# Altium integrated library TI Interface Display Driver.IntLib: 102 symbols (part 3 of 3)
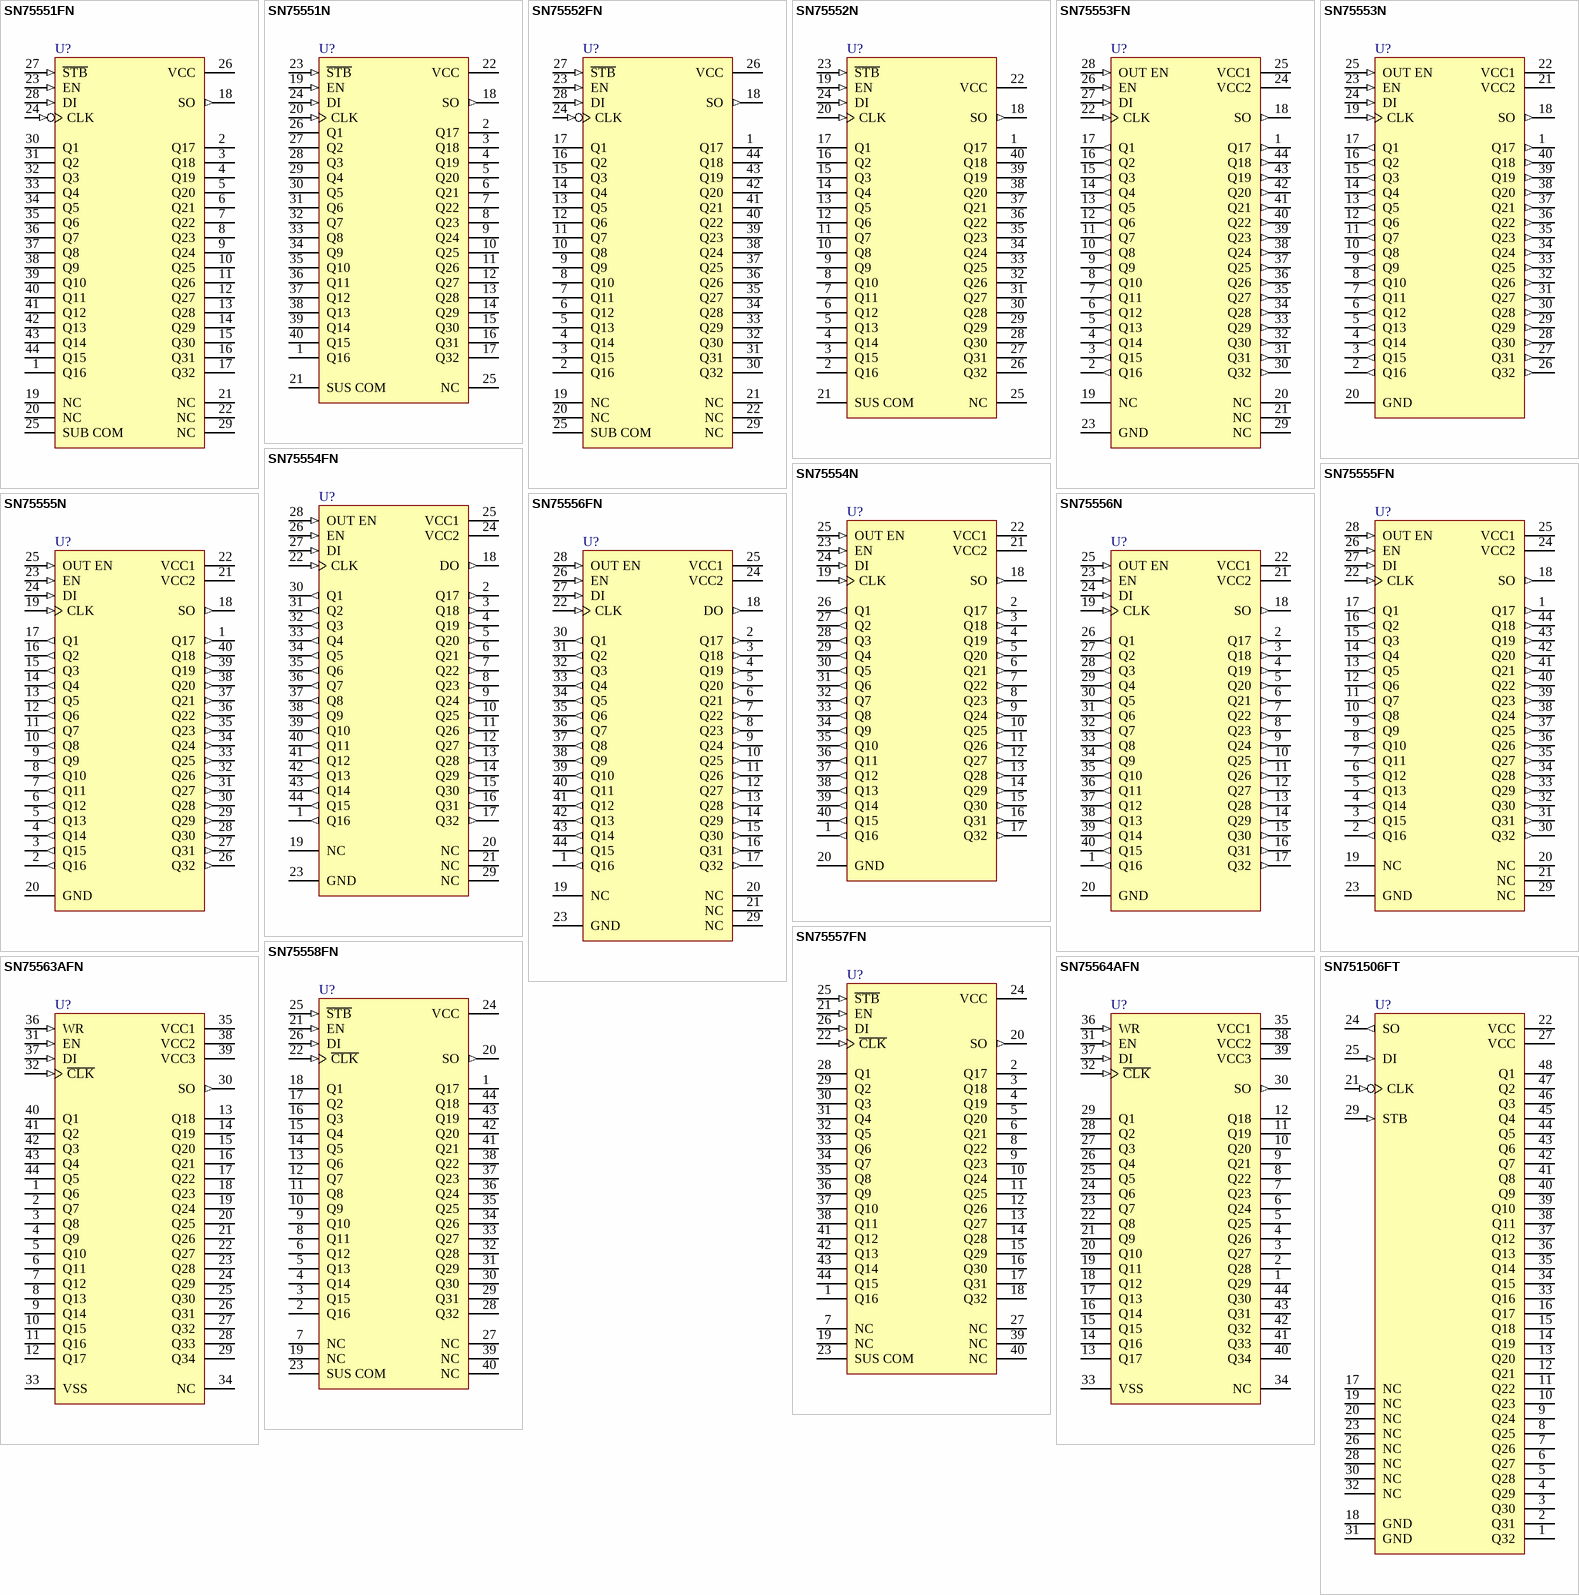
[diagram p6: symbols SN75551FN to SN751506FT]

## SN75563AFN
designator U?
Electroluminescent Row Driver; Note: The 'POSITIVE WRITE' pin configures the 'Q' Outputs as OPEN EMITTER, or OPEN COLLECTOR.  Ensure 'Q' pins are the appropriate electrical type.; Published: 15-May-2002; LatestRevisionDate: 13-Apr-2006; LatestRevisionNote: IPC-7351 Footprint Added.; DatasheetVersion: Dec-1989; PackageVersion: Oct-1994; PackageReference: FN044; Publisher: Altium Limited; PackageDescription: 44-Pin Leaded Chip Carrier 1.27 mm Pitch; Code_IPC: PLCC-44; ComponentLink1Description: Manufacturer Link; ComponentLink1URL: http://www.ti.com/
footprint FN044_N (Leaded Chip Carrier, 44-Leads, Body 16.6x16.6mm, Pitch 1.27mm, IPC Medium Density)
footprint FN044_L (Leaded Chip Carrier, 44-Leads, Body 16.6x16.6mm, Pitch 1.27mm, IPC High Density)
footprint FN044_M (Leaded Chip Carrier, 44-Leads, Body 16.6x16.6mm, Pitch 1.27mm, IPC Low Density)
3D model SN75563A-FN044 (44-Pin Leaded Chip Carrier 1.27 mm Pitch)
pins: 1 Q6 (hiz), 2 Q7 (hiz), 3 Q8 (hiz), 4 Q9 (hiz), 5 Q10 (hiz), 6 Q11 (hiz), 7 Q12 (hiz), 8 Q13 (hiz), 9 Q14 (hiz), 10 Q15 (hiz), 11 Q16 (hiz), 12 Q17 (hiz), 13 Q18 (hiz), 14 Q19 (hiz), 15 Q20 (hiz), 16 Q21 (hiz), 17 Q22 (hiz), 18 Q23 (hiz), 19 Q24 (hiz), 20 Q25 (hiz), 21 Q26 (hiz), 22 Q27 (hiz), 23 Q28 (hiz), 24 Q29 (hiz), 25 Q30 (hiz), 26 Q31 (hiz), 27 Q32 (hiz), 28 Q33 (hiz), 29 Q34 (hiz), 30 SO (out), 31 EN (in), 32 ~{CLK} (in), 33 VSS (power), 34 NC, 35 VCC1 (power), 36 WR (in), 37 DI (in), 38 VCC2 (power), 39 VCC3 (power), 40 Q1 (hiz), 41 Q2 (hiz), 42 Q3 (hiz), 43 Q4 (hiz), 44 Q5 (hiz)

## SN75564AFN
designator U?
Electroluminescent Row Driver; Note: The 'POSITIVE WRITE' pin configures the 'Q' Outputs as OPEN EMITTER, or OPEN COLLECTOR.  Ensure 'Q' pins are the appropriate electrical type.; Published: 15-May-2002; LatestRevisionDate: 13-Apr-2006; LatestRevisionNote: IPC-7351 Footprint Added.; DatasheetVersion: Dec-1989; PackageVersion: Oct-1994; PackageReference: FN044; Publisher: Altium Limited; PackageDescription: 44-Pin Leaded Chip Carrier 1.27 mm Pitch; Code_IPC: PLCC-44; ComponentLink1Description: Manufacturer Link; ComponentLink1URL: http://www.ti.com/
footprint FN044_N (Leaded Chip Carrier, 44-Leads, Body 16.6x16.6mm, Pitch 1.27mm, IPC Medium Density)
footprint FN044_L (Leaded Chip Carrier, 44-Leads, Body 16.6x16.6mm, Pitch 1.27mm, IPC High Density)
footprint FN044_M (Leaded Chip Carrier, 44-Leads, Body 16.6x16.6mm, Pitch 1.27mm, IPC Low Density)
3D model SN75564A-FN044 (44-Pin Leaded Chip Carrier 1.27 mm Pitch)
pins: 1 Q29 (hiz), 2 Q28 (hiz), 3 Q27 (hiz), 4 Q26 (hiz), 5 Q25 (hiz), 6 Q24 (hiz), 7 Q23 (hiz), 8 Q22 (hiz), 9 Q21 (hiz), 10 Q20 (hiz), 11 Q19 (hiz), 12 Q18 (hiz), 13 Q17 (hiz), 14 Q16 (hiz), 15 Q15 (hiz), 16 Q14 (hiz), 17 Q13 (hiz), 18 Q12 (hiz), 19 Q11 (hiz), 20 Q10 (hiz), 21 Q9 (hiz), 22 Q8 (hiz), 23 Q7 (hiz), 24 Q6 (hiz), 25 Q5 (hiz), 26 Q4 (hiz), 27 Q3 (hiz), 28 Q2 (hiz), 29 Q1 (hiz), 30 SO (out), 31 EN (in), 32 ~{CLK} (in), 33 VSS (power), 34 NC, 35 VCC1 (power), 36 WR (in), 37 DI (in), 38 VCC2 (power), 39 VCC3 (power), 40 Q34 (hiz), 41 Q33 (hiz), 42 Q32 (hiz), 43 Q31 (hiz), 44 Q30 (hiz)

## SN751506FT
designator U?
DC Plasma Display Driver; ComponentAvailability: Obsolete; Published: 15-May-2002; LatestRevisionDate: 13-Apr-2006; LatestRevisionNote: IPC-7351 Footprint Added.; DatasheetVersion: Jul-1989; PackageVersion: Mar-1998; PackageReference: FT048; Publisher: Altium Limited; PackageDescription: 48-Pin Small Outline Package 0.8 mm Pitch; ComponentLink1Description: Manufacturer Link; ComponentLink1URL: http://www.ti.com/; ComponentLink2Description: Datasheet; ComponentLink2URL: http://www-s.ti.com/sc/ds/sn751506.pdf
footprint FT048_N (SOP, 48-Leads, Body 20x14mm, Pitch 0.8mm, IPC Medium Density)
footprint FT048_L (SOP, 48-Leads, Body 20x14mm, Pitch 0.8mm, IPC High Density)
footprint FT048_M (SOP, 48-Leads, Body 20x14mm, Pitch 0.8mm, IPC Low Density)
3D model FT048 (48-Pin Small Outline Package 0.8 mm Pitch)
pins: 1 Q32 (oc), 2 Q31 (oc), 3 Q30 (oc), 4 Q29 (oc), 5 Q28 (oc), 6 Q27 (oc), 7 Q26 (oc), 8 Q25 (oc), 9 Q24 (oc), 10 Q23 (oc), 11 Q22 (oc), 12 Q21 (oc), 13 Q20 (oc), 14 Q19 (oc), 15 Q18 (oc), 16 Q17 (oc), 17 NC, 18 GND (power), 19 NC, 20 NC, 21 CLK (in), 22 VCC (power), 23 NC, 24 SO (out), 25 DI (in), 26 NC, 27 VCC (power), 28 NC, 29 STB (in), 30 NC, 31 GND (power), 32 NC, 33 Q16 (oc), 34 Q15 (oc), 35 Q14 (oc), 36 Q13 (oc), 37 Q12 (oc), 38 Q11 (oc), 39 Q10 (oc), 40 Q9 (oc), 41 Q8 (oc), 42 Q7 (oc), 43 Q6 (oc), 44 Q5 (oc), 45 Q4 (oc), 46 Q3 (oc), 47 Q2 (oc), 48 Q1 (oc)

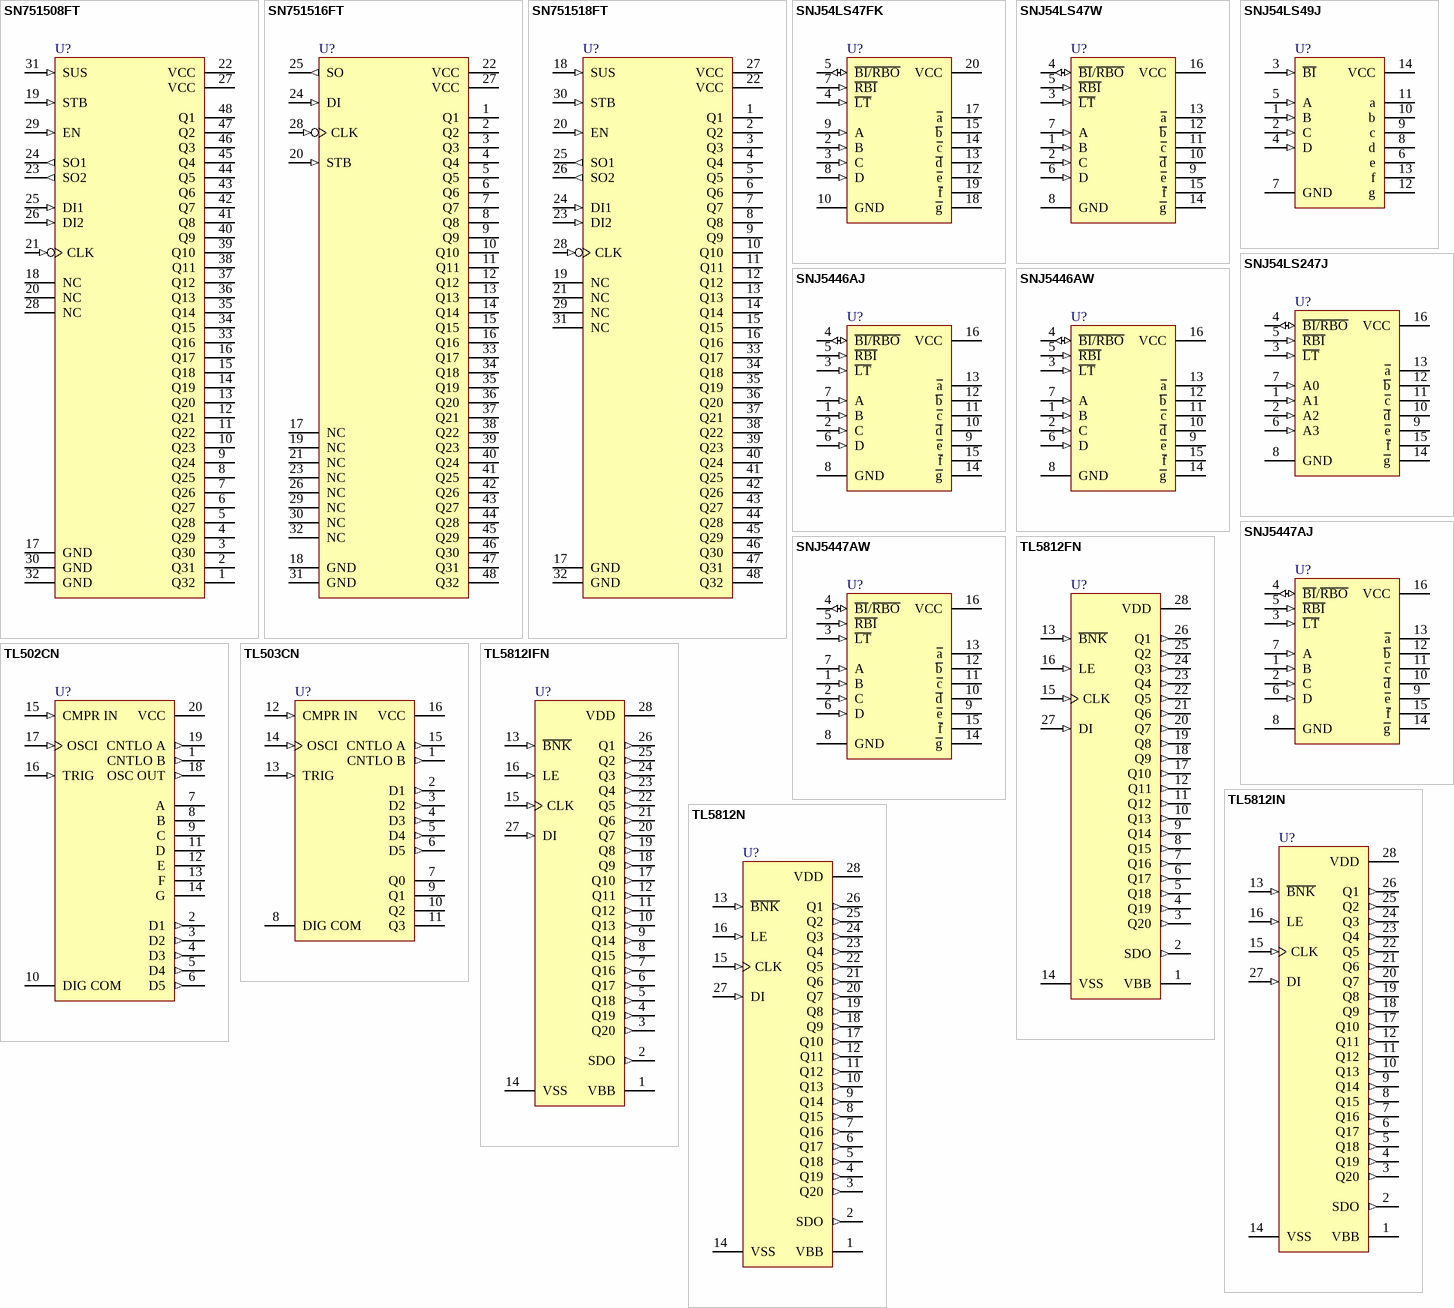
[diagram p4: symbols SN751508FT to TL5812N]

## SN751508FT
designator U?
DC Plasma Display Driver; ComponentAvailability: Obsolete; Published: 15-May-2002; LatestRevisionDate: 13-Apr-2006; LatestRevisionNote: IPC-7351 Footprint Added.; DatasheetVersion: Nov-1989; PackageVersion: Mar-1998; PackageReference: FT048; Publisher: Altium Limited; PackageDescription: 48-Pin Small Outline Package 0.8 mm Pitch; ComponentLink1Description: Manufacturer Link; ComponentLink1URL: http://www.ti.com/; ComponentLink2Description: Datasheet; ComponentLink2URL: http://www-s.ti.com/sc/ds/sn751518.pdf
footprint FT048_N (SOP, 48-Leads, Body 20x14mm, Pitch 0.8mm, IPC Medium Density)
footprint FT048_L (SOP, 48-Leads, Body 20x14mm, Pitch 0.8mm, IPC High Density)
footprint FT048_M (SOP, 48-Leads, Body 20x14mm, Pitch 0.8mm, IPC Low Density)
3D model FT048 (48-Pin Small Outline Package 0.8 mm Pitch)
pins: 1 Q32 (oe), 2 Q31 (oe), 3 Q30 (oe), 4 Q29 (oe), 5 Q28 (oe), 6 Q27 (oe), 7 Q26 (oe), 8 Q25 (oe), 9 Q24 (oe), 10 Q23 (oe), 11 Q22 (oe), 12 Q21 (oe), 13 Q20 (oe), 14 Q19 (oe), 15 Q18 (oe), 16 Q17 (oe), 17 GND (power), 18 NC, 19 STB (in), 20 NC, 21 CLK (in), 22 VCC (power), 23 SO2 (out), 24 SO1 (out), 25 DI1 (in), 26 DI2 (in), 27 VCC (power), 28 NC, 29 EN (in), 30 GND (power), 31 SUS (in), 32 GND (power), 33 Q16 (oe), 34 Q15 (oe), 35 Q14 (oe), 36 Q13 (oe), 37 Q12 (oe), 38 Q11 (oe), 39 Q10 (oe), 40 Q9 (oe), 41 Q8 (oe), 42 Q7 (oe), 43 Q6 (oe), 44 Q5 (oe), 45 Q4 (oe), 46 Q3 (oe), 47 Q2 (oe), 48 Q1 (oe)

## SN751516FT
designator U?
DC Plasma Display Driver; ComponentAvailability: Obsolete; Published: 15-May-2002; LatestRevisionDate: 13-Apr-2006; LatestRevisionNote: IPC-7351 Footprint Added.; DatasheetVersion: Jul-1989; PackageVersion: Mar-1998; PackageReference: FT048; Publisher: Altium Limited; PackageDescription: 48-Pin Small Outline Package 0.8 mm Pitch; ComponentLink1Description: Manufacturer Link; ComponentLink1URL: http://www.ti.com/; ComponentLink2Description: Datasheet; ComponentLink2URL: http://www-s.ti.com/sc/ds/sn751506.pdf
footprint FT048_N (SOP, 48-Leads, Body 20x14mm, Pitch 0.8mm, IPC Medium Density)
footprint FT048_L (SOP, 48-Leads, Body 20x14mm, Pitch 0.8mm, IPC High Density)
footprint FT048_M (SOP, 48-Leads, Body 20x14mm, Pitch 0.8mm, IPC Low Density)
3D model FT048 (48-Pin Small Outline Package 0.8 mm Pitch)
pins: 1 Q1 (oc), 2 Q2 (oc), 3 Q3 (oc), 4 Q4 (oc), 5 Q5 (oc), 6 Q6 (oc), 7 Q7 (oc), 8 Q8 (oc), 9 Q9 (oc), 10 Q10 (oc), 11 Q11 (oc), 12 Q12 (oc), 13 Q13 (oc), 14 Q14 (oc), 15 Q15 (oc), 16 Q16 (oc), 17 NC, 18 GND (power), 19 NC, 20 STB (in), 21 NC, 22 VCC (power), 23 NC, 24 DI (in), 25 SO (out), 26 NC, 27 VCC (power), 28 CLK (in), 29 NC, 30 NC, 31 GND (power), 32 NC, 33 Q17 (oc), 34 Q18 (oc), 35 Q19 (oc), 36 Q20 (oc), 37 Q21 (oc), 38 Q22 (oc), 39 Q23 (oc), 40 Q24 (oc), 41 Q25 (oc), 42 Q26 (oc), 43 Q27 (oc), 44 Q28 (oc), 45 Q29 (oc), 46 Q30 (oc), 47 Q31 (oc), 48 Q32 (oc)

## SN751518FT
designator U?
DC Plasma Display Driver; ComponentAvailability: Obsolete; Published: 15-May-2002; LatestRevisionDate: 13-Apr-2006; LatestRevisionNote: IPC-7351 Footprint Added.; DatasheetVersion: Nov-1989; PackageVersion: Mar-1998; PackageReference: FT048; Publisher: Altium Limited; PackageDescription: 48-Pin Small Outline Package 0.8 mm Pitch; ComponentLink1Description: Manufacturer Link; ComponentLink1URL: http://www.ti.com/; ComponentLink2Description: Datasheet; ComponentLink2URL: http://www-s.ti.com/sc/ds/sn751518.pdf
footprint FT048_N (SOP, 48-Leads, Body 20x14mm, Pitch 0.8mm, IPC Medium Density)
footprint FT048_L (SOP, 48-Leads, Body 20x14mm, Pitch 0.8mm, IPC High Density)
footprint FT048_M (SOP, 48-Leads, Body 20x14mm, Pitch 0.8mm, IPC Low Density)
3D model FT048 (48-Pin Small Outline Package 0.8 mm Pitch)
pins: 1 Q1 (oe), 2 Q2 (oe), 3 Q3 (oe), 4 Q4 (oe), 5 Q5 (oe), 6 Q6 (oe), 7 Q7 (oe), 8 Q8 (oe), 9 Q9 (oe), 10 Q10 (oe), 11 Q11 (oe), 12 Q12 (oe), 13 Q13 (oe), 14 Q14 (oe), 15 Q15 (oe), 16 Q16 (oe), 17 GND (power), 18 SUS (in), 19 NC, 20 EN (in), 21 NC, 22 VCC (power), 23 DI2 (in), 24 DI1 (in), 25 SO1 (out), 26 SO2 (out), 27 VCC (power), 28 CLK (in), 29 NC, 30 STB (in), 31 NC, 32 GND (power), 33 Q17 (oe), 34 Q18 (oe), 35 Q19 (oe), 36 Q20 (oe), 37 Q21 (oe), 38 Q22 (oe), 39 Q23 (oe), 40 Q24 (oe), 41 Q25 (oe), 42 Q26 (oe), 43 Q27 (oe), 44 Q28 (oe), 45 Q29 (oe), 46 Q30 (oe), 47 Q31 (oe), 48 Q32 (oe)

## SNJ54LS47FK
designator U?
BCD-to-Seven-Segment Decoder/Driver; Note: Pins 1, 6, 11 and 16 - No Connection and not drawn; Published: 8-Jun-2000; LatestRevisionDate: 29-May-2009; LatestRevisionNote: IPC-7351 Footprint Added.; DatasheetVersion: Mar-1988; PackageVersion: 1998; PackageReference: FK020; Publisher: Altium Limited; PackageDescription: 20-Pin Leadless Chip Carrier 1.27 mm Pitch; Code_JEDEC: MS-004-CB; ComponentLink1Description: Manufacturer Link; ComponentLink1URL: http://www.ti.com/
footprint FK020_N (Leadless Chip Carrier, 20-Leads, Body 8.9x8.9mm, Pitch 1.27mm, IPC Medium Density)
footprint FK020_L (Leadless Chip Carrier, 20-Leads, Body 8.9x8.9mm, Pitch 1.27mm, IPC High Density)
footprint FK020_M (Leadless Chip Carrier, 20-Leads, Body 8.9x8.9mm, Pitch 1.27mm, IPC Low Density)
simulation model SN74LS47 (SIMCODE)
signal-integrity model SNJ54LS47FK
pins: 2 B (in), 3 C (in), 4 ~{LT} (in), 5 ~{BI/RBO} (io), 7 ~{RBI} (in), 8 D (in), 9 A (in), 10 GND (power), 12 ~{e} (oc), 13 ~{d} (oc), 14 ~{c} (oc), 15 ~{b} (oc), 17 ~{a} (oc), 18 ~{g} (oc), 19 ~{f} (oc), 20 VCC (power)

## SNJ54LS47W
designator U?
BCD-to-Seven-Segment Decoder/Driver; Published: 8-Jun-2000; LatestRevisionDate: 04-Mar-2005; LatestRevisionNote: Stylized 3D Model Added.; DatasheetVersion: Mar-1988; PackageVersion: Jan-1995; PackageReference: W016; Publisher: Altium Limited; PackageDescription: DFP; 16 Leads; Body 10.9 x 7.2 mm (LxW max); Pitch 1.27 mm; Code_JEDEC: MO-092-AC; ComponentLink1Description: Manufacturer Link; ComponentLink1URL: http://www.ti.com/
footprint W016 (DFP; 16 Leads; Body 10.9 x 7.2 mm (LxW max); Pitch 1.27 mm)
3D model W016 (DFP; 16 Leads; Body 10.9 x 7.2 mm (LxW max); Pitch 1.27 mm)
simulation model SN74LS47 (SIMCODE)
signal-integrity model SNJ54LS47W
pins: 1 B (in), 2 C (in), 3 ~{LT} (in), 4 ~{BI}/~{RBO} (io), 5 ~{RBI} (in), 6 D (in), 7 A (in), 8 GND (power), 9 ~{e} (oc), 10 ~{d} (oc), 11 ~{c} (oc), 12 ~{b} (oc), 13 ~{a} (oc), 14 ~{g} (oc), 15 ~{f} (oc), 16 VCC (power)

## SNJ54LS49J
designator U?
BCD-to-Seven-Segment Decoder/Driver; Published: 8-Jun-2000; LatestRevisionDate: 29-May-2009; LatestRevisionNote: Component Body Added.; DatasheetVersion: Mar-1988; PackageVersion: Jun-1999; PackageReference: J014; Publisher: Altium Limited; PackageDescription: DIP, Ceramic, 14-Pin, Row Spacing 7.62 mm, Pitch 2.54 mm; ComponentLink1Description: Manufacturer Link; ComponentLink1URL: http://www.ti.com/; ComponentLink2Description: Datasheet; ComponentLink2URL: http://www-s.ti.com/sc/ds/sn54ls49.pdf; ComponentLink3Description: URL Link1; ComponentLink3URL: http://focus.ti.com/docs/prod/folders/print/sn54ls49.html
footprint J014 (DIP, 14-Leads, Row Spacing 7.62mm, Pitch 2.54mm, Body 19.56x6.92mm)
3D model J014 (DIP, Ceramic, 14-Pin, Row Spacing 7.62 mm, Pitch 2.54 mm)
signal-integrity model SNJ54LS49J
pins: 1 B (in), 2 C (in), 3 ~{BI} (in), 4 D (in), 5 A (in), 6 e (oc), 7 GND (power), 8 d (oc), 9 c (oc), 10 b (oc), 11 a (oc), 12 g (oc), 13 f (oc), 14 VCC (power)

## SNJ54LS247J
designator U?
BCD-to-Seven-Segment Decoder/Driver; Published: 8-Jun-2000; LatestRevisionDate: 29-May-2009; LatestRevisionNote: Component Body Added.; DatasheetVersion: Mar-1988; PackageVersion: Jun-1999; PackageReference: J016D; Publisher: Altium Limited; PackageDescription: DIP, Ceramic, 16-Pin, Row Spacing 7.62 mm, Pitch 2.54 mm; ComponentLink1Description: Manufacturer Link; ComponentLink1URL: http://www.ti.com/
footprint J016D (DIP, 16-Leads, Row Spacing 7.62mm, Pitch 2.54mm, Body 19.56x6.92mm)
3D model J016 (DIP, Ceramic, 16-Pin, Row Spacing 7.62 mm, Pitch 2.54 mm)
simulation model SN74LS247 (SIMCODE)
signal-integrity model SNJ54LS247J
pins: 1 A1 (in), 2 A2 (in), 3 ~{LT} (in), 4 ~{BI/RBO} (io), 5 ~{RBI} (in), 6 A3 (in), 7 A0 (in), 8 GND (power), 9 ~{e} (oc), 10 ~{d} (oc), 11 ~{c} (oc), 12 ~{b} (oc), 13 ~{a} (oc), 14 ~{g} (oc), 15 ~{f} (oc), 16 VCC (power)

## SNJ5446AJ
designator U?
BCD-to-Seven-Segment Decoder/Driver; Published: 8-Jun-2000; LatestRevisionDate: 29-May-2009; LatestRevisionNote: Component Body Added.; DatasheetVersion: Mar-1988; PackageVersion: Jun-1999; PackageReference: J016D; Publisher: Altium Limited; PackageDescription: DIP, Ceramic, 16-Pin, Row Spacing 7.62 mm, Pitch 2.54 mm; ComponentLink1Description: Manufacturer Link; ComponentLink1URL: http://www.ti.com/
footprint J016D (DIP, 16-Leads, Row Spacing 7.62mm, Pitch 2.54mm, Body 19.56x6.92mm)
3D model J016 (DIP, Ceramic, 16-Pin, Row Spacing 7.62 mm, Pitch 2.54 mm)
signal-integrity model SNJ5446AJ
pins: 1 B (in), 2 C (in), 3 ~{LT} (in), 4 ~{BI/RBO} (io), 5 ~{RBI} (in), 6 D (in), 7 A (in), 8 GND (power), 9 ~{e} (oc), 10 ~{d} (oc), 11 ~{c} (oc), 12 ~{b} (oc), 13 ~{a} (oc), 14 ~{g} (oc), 15 ~{f} (oc), 16 VCC (power)

## SNJ5446AW
designator U?
BCD-to-Seven-Segment Decoder/Driver; Published: 8-Jun-2000; LatestRevisionDate: 04-Mar-2005; LatestRevisionNote: Stylized 3D Model Added.; DatasheetVersion: Mar-1988; PackageVersion: Jan-1995; PackageReference: W016; Publisher: Altium Limited; PackageDescription: DFP; 16 Leads; Body 10.9 x 7.2 mm (LxW max); Pitch 1.27 mm; Code_JEDEC: MO-092-AC; ComponentLink1Description: Manufacturer Link; ComponentLink1URL: http://www.ti.com/
footprint W016 (DFP; 16 Leads; Body 10.9 x 7.2 mm (LxW max); Pitch 1.27 mm)
3D model W016 (DFP; 16 Leads; Body 10.9 x 7.2 mm (LxW max); Pitch 1.27 mm)
signal-integrity model SNJ5446AW
pins: 1 B (in), 2 C (in), 3 ~{LT} (in), 4 ~{BI/RBO} (io), 5 ~{RBI} (in), 6 D (in), 7 A (in), 8 GND (power), 9 ~{e} (oc), 10 ~{d} (oc), 11 ~{c} (oc), 12 ~{b} (oc), 13 ~{a} (oc), 14 ~{g} (oc), 15 ~{f} (oc), 16 VCC (power)

## SNJ5447AJ
designator U?
BCD-to-Seven-Segment Decoder/Driver; Published: 8-Jun-2000; LatestRevisionDate: 29-May-2009; LatestRevisionNote: Component Body Added.; DatasheetVersion: Mar-1988; PackageVersion: Jun-1999; PackageReference: J016D; Publisher: Altium Limited; PackageDescription: DIP, Ceramic, 16-Pin, Row Spacing 7.62 mm, Pitch 2.54 mm; ComponentLink1Description: Manufacturer Link; ComponentLink1URL: http://www.ti.com/
footprint J016D (DIP, 16-Leads, Row Spacing 7.62mm, Pitch 2.54mm, Body 19.56x6.92mm)
3D model J016 (DIP, Ceramic, 16-Pin, Row Spacing 7.62 mm, Pitch 2.54 mm)
signal-integrity model SNJ5447AJ
pins: 1 B (in), 2 C (in), 3 ~{LT} (in), 4 ~{BI}/~{RBO} (io), 5 ~{RBI} (in), 6 D (in), 7 A (in), 8 GND (power), 9 ~{e} (oc), 10 ~{d} (oc), 11 ~{c} (oc), 12 ~{b} (oc), 13 ~{a} (oc), 14 ~{g} (oc), 15 ~{f} (oc), 16 VCC (power)

## SNJ5447AW
designator U?
BCD-to-Seven-Segment Decoder/Driver; Published: 8-Jun-2000; LatestRevisionDate: 04-Mar-2005; LatestRevisionNote: Stylized 3D Model Added.; DatasheetVersion: Mar-1988; PackageVersion: Jan-1995; PackageReference: W016; Publisher: Altium Limited; PackageDescription: DFP; 16 Leads; Body 10.9 x 7.2 mm (LxW max); Pitch 1.27 mm; Code_JEDEC: MO-092-AC; ComponentLink1Description: Manufacturer Link; ComponentLink1URL: http://www.ti.com/
footprint W016 (DFP; 16 Leads; Body 10.9 x 7.2 mm (LxW max); Pitch 1.27 mm)
3D model W016 (DFP; 16 Leads; Body 10.9 x 7.2 mm (LxW max); Pitch 1.27 mm)
signal-integrity model SNJ5447AW
pins: 1 B (in), 2 C (in), 3 ~{LT} (in), 4 ~{BI}/~{RBO} (io), 5 ~{RBI} (in), 6 D (in), 7 A (in), 8 GND (power), 9 ~{e} (oc), 10 ~{d} (oc), 11 ~{c} (oc), 12 ~{b} (oc), 13 ~{a} (oc), 14 ~{g} (oc), 15 ~{f} (oc), 16 VCC (power)

## TL502CN
designator U?
Digital Processor; Published: 15-Apr-2002; LatestRevisionDate: 29-May-2009; LatestRevisionNote: Component Body Added.; DatasheetVersion: 1989; PackageVersion: Oct-1995; PackageReference: N020; Publisher: Altium Limited; PackageDescription: DIP, 20-Pin, Row Spacing 7.62 mm, Pitch 2.54 mm; ComponentLink1Description: Manufacturer Link; ComponentLink1URL: http://www.ti.com/
footprint N020 (DIP, 20-Leads, Row Spacing 7.62mm, Pitch 2.54mm, Body 24.33x6.35mm)
3D model N020 (DIP, 20-Pin, Row Spacing 7.62 mm, Pitch 2.54 mm)
pins: 1 CNTLO B (out), 2 D1 (out), 3 D2 (out), 4 D3 (out), 5 D4 (out), 6 D5 (out), 7 A (oc), 8 B (oc), 9 C (oc), 10 DIG COM (power), 11 D (oc), 12 E (oc), 13 F (oc), 14 G (oc), 15 CMPR IN (in), 16 TRIG (in), 17 OSCI (in), 18 OSC OUT (out), 19 CNTLO A (out), 20 VCC (power)

## TL503CN
designator U?
Digital Processor; Published: 15-Apr-2002; LatestRevisionDate: 29-May-2009; LatestRevisionNote: Component Body Added.; DatasheetVersion: 1989; PackageVersion: Oct-1995; PackageReference: N016; Publisher: Altium Limited; PackageDescription: DIP, 16-Pin, Row Spacing 7.62 mm, Pitch 2.54 mm; Code_JEDEC: MS-001-BB; ComponentLink1Description: Manufacturer Link; ComponentLink1URL: http://www.ti.com/
footprint N016 (DIP, 16-Leads, Row Spacing 7.62mm, Pitch 2.54mm, Body 19.31x6.35mm)
3D model N016 (DIP, 16-Pin, Row Spacing 7.62 mm, Pitch 2.54 mm)
pins: 1 CNTLO B (out), 2 D1 (out), 3 D2 (out), 4 D3 (out), 5 D4 (out), 6 D5 (out), 7 Q0 (oc), 8 DIG COM (power), 9 Q1 (oc), 10 Q2 (oc), 11 Q3 (oc), 12 CMPR IN (in), 13 TRIG (in), 14 OSCI (in), 15 CNTLO A (out), 16 VCC (power)

## TL5812FN
designator U?
Vacuum Fluorescent Display Driver; ComponentAvailability: Obsolete; Published: 15-May-2002; LatestRevisionDate: 13-Apr-2006; LatestRevisionNote: IPC-7351 Footprint Added.; DatasheetVersion: Oct-1989; PackageVersion: Oct-1994; PackageReference: FN028; Publisher: Altium Limited; PackageDescription: 28-Pin Leaded Chip Carrier 1.27 mm Pitch; Code_JEDEC: MS-018; Code_IPC: PLCC-28; ComponentLink1Description: Manufacturer Link; ComponentLink1URL: http://www.ti.com/; ComponentLink2Description: Datasheet; ComponentLink2URL: http://www-s.ti.com/sc/ds/tl5812.pdf; ComponentLink3Description: URL Link1; ComponentLink3URL: http://focus.ti.com/docs/prod/folders/print/tl5812.html
footprint FN028_N (Leaded Chip Carrier, 28-Leads, Body 11.5x11.5mm, Pitch 1.27mm, IPC Medium Density)
footprint FN028_L (Leaded Chip Carrier, 28-Leads, Body 11.5x11.5mm, Pitch 1.27mm, IPC High Density)
footprint FN028_M (Leaded Chip Carrier, 28-Leads, Body 11.5x11.5mm, Pitch 1.27mm, IPC Low Density)
3D model TL5812-FN028 (28-Pin Leaded Chip Carrier 1.27 mm Pitch)
pins: 1 VBB (power), 2 SDO (out), 3 Q20 (out), 4 Q19 (out), 5 Q18 (out), 6 Q17 (out), 7 Q16 (out), 8 Q15 (out), 9 Q14 (out), 10 Q13 (out), 11 Q12 (out), 12 Q11 (out), 13 ~{BNK} (in), 14 VSS (power), 15 CLK (in), 16 LE (in), 17 Q10 (out), 18 Q9 (out), 19 Q8 (out), 20 Q7 (out), 21 Q6 (out), 22 Q5 (out), 23 Q4 (out), 24 Q3 (out), 25 Q2 (out), 26 Q1 (out), 27 DI (in), 28 VDD (power)

## TL5812IFN
designator U?
Vacuum Fluorescent Display Driver; ComponentAvailability: Obsolete; Published: 15-May-2002; LatestRevisionDate: 13-Apr-2006; LatestRevisionNote: IPC-7351 Footprint Added.; DatasheetVersion: Oct-1989; PackageVersion: Oct-1994; PackageReference: FN028; Publisher: Altium Limited; PackageDescription: 28-Pin Leaded Chip Carrier 1.27 mm Pitch; Code_JEDEC: MS-018; Code_IPC: PLCC-28; ComponentLink1Description: Manufacturer Link; ComponentLink1URL: http://www.ti.com/; ComponentLink2Description: Datasheet; ComponentLink2URL: http://www-s.ti.com/sc/ds/tl5812.pdf; ComponentLink3Description: URL Link1; ComponentLink3URL: http://focus.ti.com/docs/prod/folders/print/tl5812.html
footprint FN028_N (Leaded Chip Carrier, 28-Leads, Body 11.5x11.5mm, Pitch 1.27mm, IPC Medium Density)
footprint FN028_L (Leaded Chip Carrier, 28-Leads, Body 11.5x11.5mm, Pitch 1.27mm, IPC High Density)
footprint FN028_M (Leaded Chip Carrier, 28-Leads, Body 11.5x11.5mm, Pitch 1.27mm, IPC Low Density)
3D model TL5812-FN028 (28-Pin Leaded Chip Carrier 1.27 mm Pitch)
pins: 1 VBB (power), 2 SDO (out), 3 Q20 (out), 4 Q19 (out), 5 Q18 (out), 6 Q17 (out), 7 Q16 (out), 8 Q15 (out), 9 Q14 (out), 10 Q13 (out), 11 Q12 (out), 12 Q11 (out), 13 ~{BNK} (in), 14 VSS (power), 15 CLK (in), 16 LE (in), 17 Q10 (out), 18 Q9 (out), 19 Q8 (out), 20 Q7 (out), 21 Q6 (out), 22 Q5 (out), 23 Q4 (out), 24 Q3 (out), 25 Q2 (out), 26 Q1 (out), 27 DI (in), 28 VDD (power)

## TL5812IN
designator U?
Vacuum Fluorescent Display Driver; ComponentAvailability: Obsolete; Published: 15-May-2002; LatestRevisionDate: 29-May-2009; LatestRevisionNote: Component Body Added.; DatasheetVersion: Oct-1989; PackageVersion: Oct-1994; PackageReference: N028; Publisher: Altium Limited; PackageDescription: DIP, 28-Pin, Row Spacing 15.24 mm, Pitch 2.54 mm; ComponentLink1Description: Manufacturer Link; ComponentLink1URL: http://www.ti.com/; ComponentLink2Description: Datasheet; ComponentLink2URL: http://www-s.ti.com/sc/ds/tl5812.pdf; ComponentLink3Description: URL Link1; ComponentLink3URL: http://focus.ti.com/docs/prod/folders/print/tl5812.html
footprint N028 (DIP, 28-Leads, Row Spacing 15.24mm, Pitch 2.54mm, Body 36.32x13.72mm)
3D model N028 (DIP, 28-Pin, Row Spacing 15.24 mm, Pitch 2.54 mm)
pins: 1 VBB (power), 2 SDO (out), 3 Q20 (out), 4 Q19 (out), 5 Q18 (out), 6 Q17 (out), 7 Q16 (out), 8 Q15 (out), 9 Q14 (out), 10 Q13 (out), 11 Q12 (out), 12 Q11 (out), 13 ~{BNK} (in), 14 VSS (power), 15 CLK (in), 16 LE (in), 17 Q10 (out), 18 Q9 (out), 19 Q8 (out), 20 Q7 (out), 21 Q6 (out), 22 Q5 (out), 23 Q4 (out), 24 Q3 (out), 25 Q2 (out), 26 Q1 (out), 27 DI (in), 28 VDD (power)

## TL5812N
designator U?
Vacuum Fluorescent Display Driver; ComponentAvailability: Obsolete; Published: 15-May-2002; LatestRevisionDate: 29-May-2009; LatestRevisionNote: Component Body Added.; DatasheetVersion: Oct-1989; PackageVersion: Oct-1994; PackageReference: N028; Publisher: Altium Limited; PackageDescription: DIP, 28-Pin, Row Spacing 15.24 mm, Pitch 2.54 mm; ComponentLink1Description: Manufacturer Link; ComponentLink1URL: http://www.ti.com/; ComponentLink2Description: Datasheet; ComponentLink2URL: http://www-s.ti.com/sc/ds/tl5812.pdf; ComponentLink3Description: URL Link1; ComponentLink3URL: http://focus.ti.com/docs/prod/folders/print/tl5812.html
footprint N028 (DIP, 28-Leads, Row Spacing 15.24mm, Pitch 2.54mm, Body 36.32x13.72mm)
3D model N028 (DIP, 28-Pin, Row Spacing 15.24 mm, Pitch 2.54 mm)
pins: 1 VBB (power), 2 SDO (out), 3 Q20 (out), 4 Q19 (out), 5 Q18 (out), 6 Q17 (out), 7 Q16 (out), 8 Q15 (out), 9 Q14 (out), 10 Q13 (out), 11 Q12 (out), 12 Q11 (out), 13 ~{BNK} (in), 14 VSS (power), 15 CLK (in), 16 LE (in), 17 Q10 (out), 18 Q9 (out), 19 Q8 (out), 20 Q7 (out), 21 Q6 (out), 22 Q5 (out), 23 Q4 (out), 24 Q3 (out), 25 Q2 (out), 26 Q1 (out), 27 DI (in), 28 VDD (power)